# Altium schematic symbol library BGA824N6.SchLib: 1 symbol
Pins are listed as number, name and electrical type; pins without a type are passive.

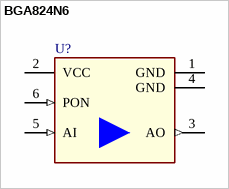
[diagram p0: symbol BGA824N6]

## BGA824N6
designator U?  (value not drawn)
Silicon Germanium Low Noise Amplifier for Global Navigation Satellite Systems (GNSS), High Insertion Power Gain:17.0dB; Manufacturer: Infineon Technologies; ManufacturerPartNumber: BGA824N6; PackageReference: TSNP-6-2
footprint INF-PG-TSNP-6-2-V
footprint INF-PG-TSNP-6-2
pins: 1 GND (power) "Ground", 2 VCC (power) "DC Supply", 3 AO (out) "LNA Output", 4 GND (power) "Ground", 5 AI (in) "LNA Input", 6 PON (in) "Power on Control"